# EAGLE library part XFMR_40-18053 (library wheat)
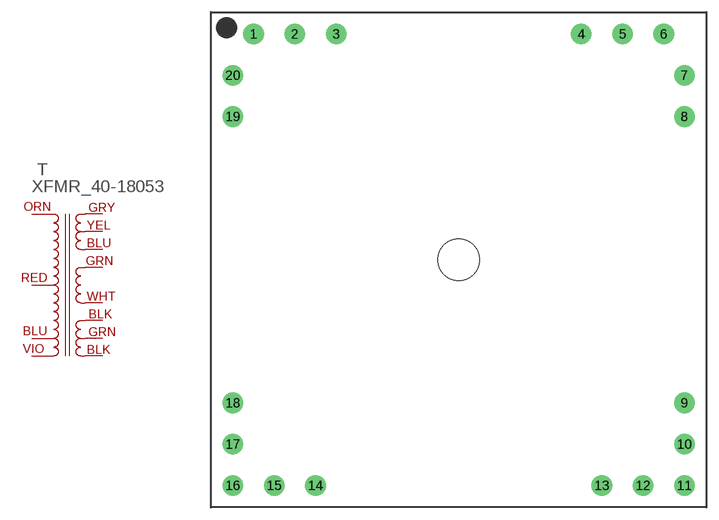
[diagram p162: symbol with the pads of XFMR_TOROID_15VA; footprint XFMR_TOROID_15VA]

Designator prefix T

## XFMR_40-18053  [XFMR_TOROID_15VA]
1  P1  pas
2  P3  pas
3  P4  pas
4  P5  pas
5  S1  pas
6  S2  pas
7  S3  pas
8  S4  pas
9  S5  pas
10  S6  pas
11  S11  pas
12  S12  pas

## Footprint XFMR_TOROID_15VA (pad centres in mm)
drill 1.27 pad 2.54: 1 -25.248,27.788; 2 -20.168,27.788; 3 -15.088,27.788; 4 15.088,27.788; 5 20.168,27.788; 6 25.248,27.788; 7 27.788,22.708; 8 27.788,17.628; 9 27.788,-17.628; 10 27.788,-22.708; 11 27.788,-27.788; 12 22.708,-27.788; 13 17.628,-27.788; 14 -17.628,-27.788; 15 -22.708,-27.788; 16 -27.788,-27.788; 17 -27.788,-22.708; 18 -27.788,-17.628; 19 -27.788,17.628; 20 -27.788,22.708
hole 5.08 at 0,0